# Altium schematic symbol library resistor-power.SCHLIB: 89 symbols
Pins are listed as number, name and electrical type; pins without a type are passive.

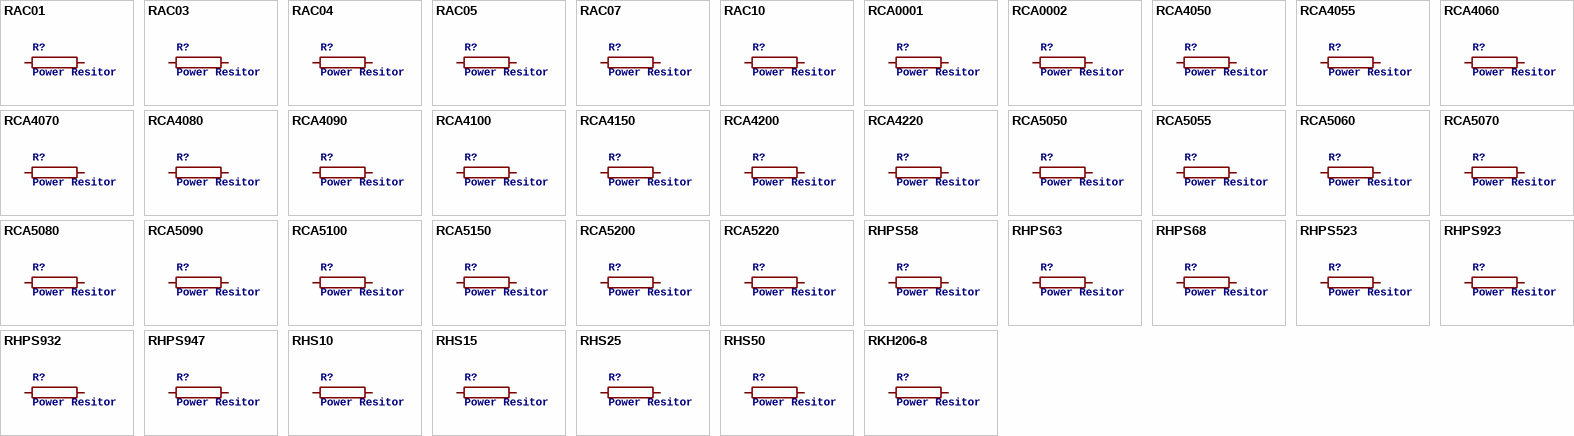
[diagram p0: symbols RAC01 to RKH206-8]

## RAC01
designator R?, comment Power Resitor
OC_FARNELL: unknown; OC_NEWARK: unknown
footprint AC01
pins: 1, 2

## RAC03
designator R?, comment Power Resitor
OC_FARNELL: unknown; OC_NEWARK: unknown
footprint AC03
pins: 1, 2

## RAC04
designator R?, comment Power Resitor
OC_FARNELL: unknown; OC_NEWARK: unknown
footprint AC04
pins: 1, 2

## RAC05
designator R?, comment Power Resitor
OC_FARNELL: unknown; OC_NEWARK: unknown
footprint AC05
pins: 1, 2

## RAC07
designator R?, comment Power Resitor
OC_FARNELL: unknown; OC_NEWARK: unknown
footprint AC07
pins: 1, 2

## RAC10
designator R?, comment Power Resitor
OC_FARNELL: unknown; OC_NEWARK: unknown
footprint AC10
pins: 1, 2

## RCA0001
designator R?, comment Power Resitor
OC_FARNELL: unknown; OC_NEWARK: unknown
footprint CA0001
pins: 1, 2

## RCA0002
designator R?, comment Power Resitor
OC_FARNELL: unknown; OC_NEWARK: unknown
footprint CA0002
pins: 1, 2

## RCA4050
designator R?, comment Power Resitor
OC_FARNELL: unknown; OC_NEWARK: unknown
footprint CA4050
pins: 1, 2

## RCA4055
designator R?, comment Power Resitor
OC_FARNELL: unknown; OC_NEWARK: unknown
footprint CA4055
pins: 1, 2

## RCA4060
designator R?, comment Power Resitor
OC_FARNELL: unknown; OC_NEWARK: unknown
footprint CA4060
pins: 1, 2

## RCA4070
designator R?, comment Power Resitor
OC_FARNELL: unknown; OC_NEWARK: unknown
footprint CA4070
pins: 1, 2

## RCA4080
designator R?, comment Power Resitor
OC_FARNELL: unknown; OC_NEWARK: unknown
footprint CA4080
pins: 1, 2

## RCA4090
designator R?, comment Power Resitor
OC_FARNELL: unknown; OC_NEWARK: unknown
footprint CA4090
pins: 1, 2

## RCA4100
designator R?, comment Power Resitor
OC_FARNELL: unknown; OC_NEWARK: unknown
footprint CA4100
pins: 1, 2

## RCA4150
designator R?, comment Power Resitor
OC_FARNELL: unknown; OC_NEWARK: unknown
footprint CA4150
pins: 1, 2

## RCA4200
designator R?, comment Power Resitor
OC_FARNELL: unknown; OC_NEWARK: unknown
footprint CA4200
pins: 1, 2

## RCA4220
designator R?, comment Power Resitor
OC_FARNELL: unknown; OC_NEWARK: unknown
footprint CA4220
pins: 1, 2

## RCA5050
designator R?, comment Power Resitor
OC_FARNELL: unknown; OC_NEWARK: unknown
footprint CA5050
pins: 1, 2

## RCA5055
designator R?, comment Power Resitor
OC_FARNELL: unknown; OC_NEWARK: unknown
footprint CA5055
pins: 1, 2

## RCA5060
designator R?, comment Power Resitor
OC_FARNELL: unknown; OC_NEWARK: unknown
footprint CA5060
pins: 1, 2

## RCA5070
designator R?, comment Power Resitor
OC_FARNELL: unknown; OC_NEWARK: unknown
footprint CA5070
pins: 1, 2

## RCA5080
designator R?, comment Power Resitor
OC_FARNELL: unknown; OC_NEWARK: unknown
footprint CA5080
pins: 1, 2

## RCA5090
designator R?, comment Power Resitor
OC_FARNELL: unknown; OC_NEWARK: unknown
footprint CA5090
pins: 1, 2

## RCA5100
designator R?, comment Power Resitor
OC_FARNELL: unknown; OC_NEWARK: unknown
footprint CA5100
pins: 1, 2

## RCA5150
designator R?, comment Power Resitor
OC_FARNELL: unknown; OC_NEWARK: unknown
footprint CA5150
pins: 1, 2

## RCA5200
designator R?, comment Power Resitor
OC_FARNELL: unknown; OC_NEWARK: unknown
footprint CA5200
pins: 1, 2

## RCA5220
designator R?, comment Power Resitor
OC_FARNELL: unknown; OC_NEWARK: unknown
footprint CA5220
pins: 1, 2

## RHPS58
designator R?, comment Power Resitor
OC_FARNELL: unknown; OC_NEWARK: unknown
footprint HPS58
pins: 1, 2

## RHPS63
designator R?, comment Power Resitor
OC_FARNELL: unknown; OC_NEWARK: unknown
footprint HPS63
pins: 1, 2

## RHPS68
designator R?, comment Power Resitor
OC_FARNELL: unknown; OC_NEWARK: unknown
footprint HPS68
pins: 1, 2

## RHPS523
designator R?, comment Power Resitor
OC_FARNELL: unknown; OC_NEWARK: unknown
footprint HPS523
pins: 1, 2

## RHPS923
designator R?, comment Power Resitor
OC_FARNELL: unknown; OC_NEWARK: unknown
footprint HPS923
pins: 1, 2

## RHPS932
designator R?, comment Power Resitor
OC_FARNELL: unknown; OC_NEWARK: unknown
footprint HPS932
pins: 1, 2

## RHPS947
designator R?, comment Power Resitor
OC_FARNELL: unknown; OC_NEWARK: unknown
footprint HPS947
pins: 1, 2

## RHS10
designator R?, comment Power Resitor
MPN: RHS10K; MF: OHMITE; OC_FARNELL: 1050333; OC_NEWARK: 01F7568
footprint HS10
pins: 1, 2

## RHS15
designator R?, comment Power Resitor
MPN: RHS15KE; MF: OHMITE; OC_FARNELL: 1158722; OC_NEWARK: 64K5744
footprint HS15
pins: 1, 2

## RHS25
designator R?, comment Power Resitor
MPN: RHS25K; OC_FARNELL: 1129876; OC_NEWARK: 13P6733
footprint HS25
pins: 1, 2

## RHS50
designator R?, comment Power Resitor
MPN: RHS50R; OC_FARNELL: 1050163; OC_NEWARK: 13P6749
footprint HS50
pins: 1, 2

## RKH206-8
designator R?, comment Power Resitor
OC_FARNELL: unknown; OC_NEWARK: unknown
footprint KH206-8
pins: 1, 2

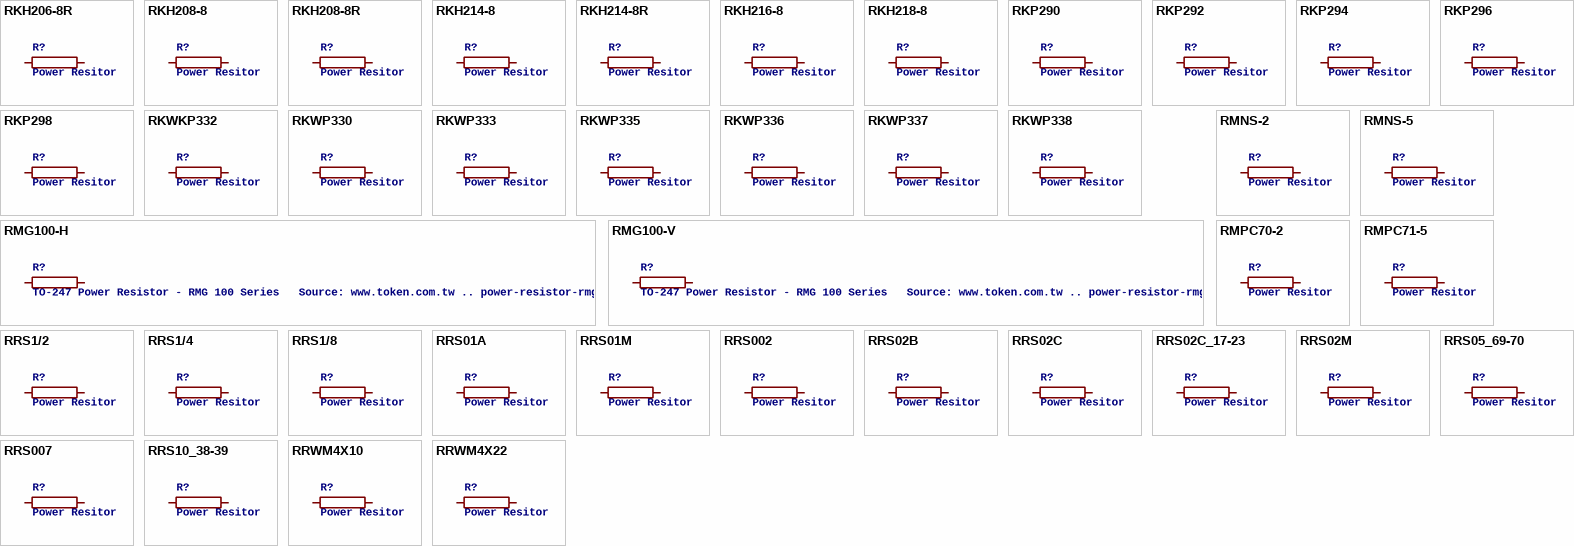
[diagram p1: symbols RKH206-8R to RRWM4X22]

## RKH206-8R
designator R?, comment Power Resitor
OC_FARNELL: unknown; OC_NEWARK: unknown
footprint KH206-8R
pins: 1, 2

## RKH208-8
designator R?, comment Power Resitor
OC_FARNELL: unknown; OC_NEWARK: unknown
footprint KH208-8
pins: 1, 2

## RKH208-8R
designator R?, comment Power Resitor
OC_FARNELL: unknown; OC_NEWARK: unknown
footprint KH208R-8
pins: 1, 2

## RKH214-8
designator R?, comment Power Resitor
OC_FARNELL: unknown; OC_NEWARK: unknown
footprint KH214-8
pins: 1, 2

## RKH214-8R
designator R?, comment Power Resitor
OC_FARNELL: unknown; OC_NEWARK: unknown
footprint KH214R-8
pins: 1, 2

## RKH216-8
designator R?, comment Power Resitor
OC_FARNELL: unknown; OC_NEWARK: unknown
footprint KH216-8
pins: 1, 2

## RKH218-8
designator R?, comment Power Resitor
OC_FARNELL: unknown; OC_NEWARK: unknown
footprint KH218-8
pins: 1, 2

## RKP290
designator R?, comment Power Resitor
OC_FARNELL: unknown; OC_NEWARK: unknown
footprint KP290
pins: 1, 2

## RKP292
designator R?, comment Power Resitor
OC_FARNELL: unknown; OC_NEWARK: unknown
footprint KP292
pins: 1, 2

## RKP294
designator R?, comment Power Resitor
OC_FARNELL: unknown; OC_NEWARK: unknown
footprint KP294
pins: 1, 2

## RKP296
designator R?, comment Power Resitor
OC_FARNELL: unknown; OC_NEWARK: unknown
footprint KP296
pins: 1, 2

## RKP298
designator R?, comment Power Resitor
OC_FARNELL: unknown; OC_NEWARK: unknown
footprint KP298
pins: 1, 2

## RKWKP332
designator R?, comment Power Resitor
OC_FARNELL: unknown; OC_NEWARK: unknown
footprint KWP332
pins: 1, 2

## RKWP330
designator R?, comment Power Resitor
OC_FARNELL: unknown; OC_NEWARK: unknown
footprint KWP330
pins: 1, 2

## RKWP333
designator R?, comment Power Resitor
OC_FARNELL: unknown; OC_NEWARK: unknown
footprint KWP333
pins: 1, 2

## RKWP335
designator R?, comment Power Resitor
OC_FARNELL: unknown; OC_NEWARK: unknown
footprint KWP335
pins: 1, 2

## RKWP336
designator R?, comment Power Resitor
OC_FARNELL: unknown; OC_NEWARK: unknown
footprint KWP336
pins: 1, 2

## RKWP337
designator R?, comment Power Resitor
OC_FARNELL: unknown; OC_NEWARK: unknown
footprint KWP337
pins: 1, 2

## RKWP338
designator R?, comment Power Resitor
OC_FARNELL: unknown; OC_NEWARK: unknown
footprint KWP338
pins: 1, 2

## RMG100-H
designator R?, comment TO-247 Power Resistor - RMG 100 Series   Source: www.token.com.tw .. power-resistor-rmg100pdf
OC_FARNELL: unknown; OC_NEWARK: unknown
footprint TO-247-2H
pins: 1, 2

## RMG100-V
designator R?, comment TO-247 Power Resistor - RMG 100 Series   Source: www.token.com.tw .. power-resistor-rmg100pdf
OC_FARNELL: unknown; OC_NEWARK: unknown
footprint TO-247-2V
pins: 1, 2

## RMNS-2
designator R?, comment Power Resitor
OC_FARNELL: unknown; OC_NEWARK: unknown
footprint MNS-2
pins: 1, 2

## RMNS-5
designator R?, comment Power Resitor
OC_FARNELL: unknown; OC_NEWARK: unknown
footprint MNS-5
pins: 1, 2

## RMPC70-2
designator R?, comment Power Resitor
OC_FARNELL: unknown; OC_NEWARK: unknown
footprint MPC70-2
pins: 1, 2

## RMPC71-5
designator R?, comment Power Resitor
OC_FARNELL: unknown; OC_NEWARK: unknown
footprint MPC71-5
pins: 1, 2

## RRS1/2
designator R?, comment Power Resitor
MPN: RRS1K0E; MF: OHMITE; OC_FARNELL: 1762006; OC_NEWARK: 64K5942
footprint RS1/2
pins: 1, 2

## RRS1/4
designator R?, comment Power Resitor
MPN: RRS1K0; MF: OHMITE; OC_FARNELL: unknown; OC_NEWARK: 01F7661
footprint RS1/4
pins: 1, 2

## RRS1/8
designator R?, comment Power Resitor
OC_FARNELL: unknown; OC_NEWARK: unknown
footprint RS1/8
pins: 1, 2

## RRS01A
designator R?, comment Power Resitor
OC_FARNELL: unknown; OC_NEWARK: unknown
footprint RS01A
pins: 1, 2

## RRS01M
designator R?, comment Power Resitor
OC_FARNELL: unknown; OC_NEWARK: unknown
footprint RS01M
pins: 1, 2

## RRS002
designator R?, comment Power Resitor
OC_FARNELL: unknown; OC_NEWARK: unknown
footprint RS002
pins: 1, 2

## RRS02B
designator R?, comment Power Resitor
OC_FARNELL: unknown; OC_NEWARK: unknown
footprint RS02B
pins: 1, 2

## RRS02C
designator R?, comment Power Resitor
OC_FARNELL: unknown; OC_NEWARK: unknown
footprint RS02C
pins: 1, 2

## RRS02C_17-23
designator R?, comment Power Resitor
OC_FARNELL: unknown; OC_NEWARK: unknown
footprint RS02C_17-23
pins: 1, 2

## RRS02M
designator R?, comment Power Resitor
OC_FARNELL: unknown; OC_NEWARK: unknown
footprint RS02M
pins: 1, 2

## RRS05_69-70
designator R?, comment Power Resitor
OC_FARNELL: unknown; OC_NEWARK: unknown
footprint RS05_69-70
pins: 1, 2

## RRS007
designator R?, comment Power Resitor
OC_FARNELL: unknown; OC_NEWARK: unknown
footprint RS007
pins: 1, 2

## RRS10_38-39
designator R?, comment Power Resitor
OC_FARNELL: unknown; OC_NEWARK: unknown
footprint RS10_38-39
pins: 1, 2

## RRWM4X10
designator R?, comment Power Resitor
OC_FARNELL: unknown; OC_NEWARK: unknown
footprint RWM4X10
pins: 1, 2

## RRWM4X22
designator R?, comment Power Resitor
OC_FARNELL: unknown; OC_NEWARK: unknown
footprint RWM4X22
pins: 1, 2

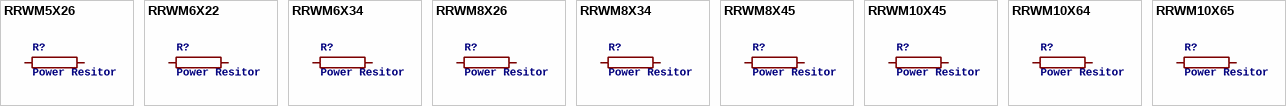
[diagram p2: symbols RRWM5X26 to RRWM10X65]

## RRWM5X26
designator R?, comment Power Resitor
OC_FARNELL: unknown; OC_NEWARK: unknown
footprint RWM5X26
pins: 1, 2

## RRWM6X22
designator R?, comment Power Resitor
OC_FARNELL: unknown; OC_NEWARK: unknown
footprint RWM6X22
pins: 1, 2

## RRWM6X34
designator R?, comment Power Resitor
OC_FARNELL: unknown; OC_NEWARK: unknown
footprint RWM6X34
pins: 1, 2

## RRWM8X26
designator R?, comment Power Resitor
OC_FARNELL: unknown; OC_NEWARK: unknown
footprint RWM8X26
pins: 1, 2

## RRWM8X34
designator R?, comment Power Resitor
OC_FARNELL: unknown; OC_NEWARK: unknown
footprint RWM8X34
pins: 1, 2

## RRWM8X45
designator R?, comment Power Resitor
OC_FARNELL: unknown; OC_NEWARK: unknown
footprint RWM8X45
pins: 1, 2

## RRWM10X45
designator R?, comment Power Resitor
OC_FARNELL: unknown; OC_NEWARK: unknown
footprint RWM10X45
pins: 1, 2

## RRWM10X64
designator R?, comment Power Resitor
OC_FARNELL: unknown; OC_NEWARK: unknown
footprint RWM10X64
pins: 1, 2

## RRWM10X65
designator R?, comment Power Resitor
OC_FARNELL: unknown; OC_NEWARK: unknown
footprint RWM10X65
pins: 1, 2